# Altium schematic symbol library kmilo17pet-LT_PMIC_LT.SchLib: 2252 symbols (part 93 of 124)
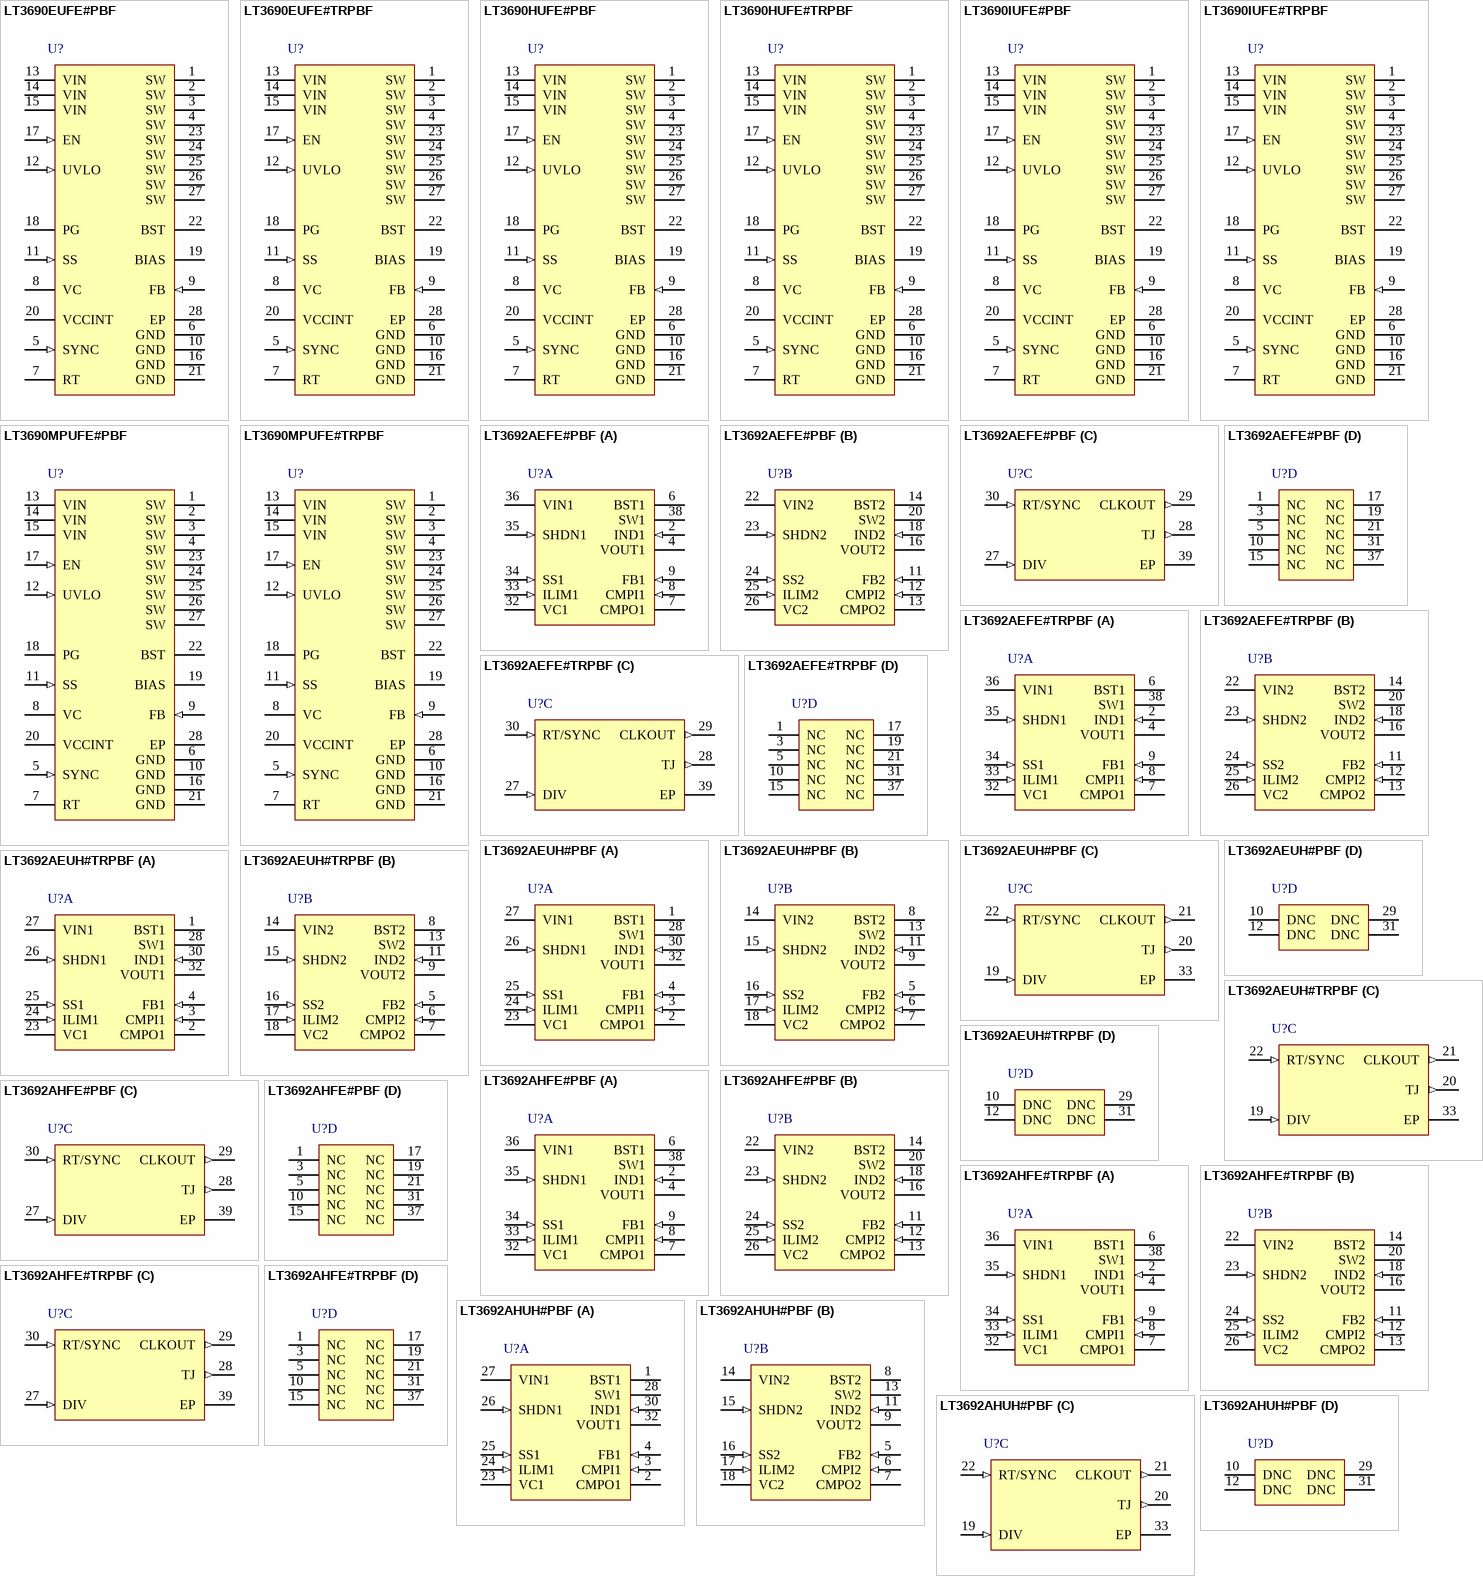
[diagram p163: symbols LT3690EUFE#PBF to LT3692AHUH#PBF]

## LT3690IUFE#PBF
designator U?
4 A, 1.5 MHz Synchronous Step-Down Switching Regulator with 70 uA Quiescent Current, 26-pin QFN (UFEMA-26), -40 to 125 degC, Pb-Free; Manufacturer: Linear Technology; PartNumber: LT3690IUFE#PBF; Number of Outputs: 1; PackageReference: UFEMA-26; PackageDescription: 26-Pin Plastic QFN, Body 6 x 4 mm, Pitch 0.5 mm; Supplier 1: Digi-Key; Supplier Part Number 1: LT3690IUFE#PBF-ND; RoHS: TRUE
footprint LT-UFEMA-26_V (QFN, 26-Leads, Body 6x4mm, Pitch 0.5mm)
pins: 1 SW (power) "The SW pin is the emitter output of the internal highside NPN power switch (HS) and the drain output of the internal lowside power N-channel switch (LS). Connect this pin to the inductor and boost capacitor. This pin is (See Datasheet)", 2 SW (power) "The SW pin is the emitter output of the internal highside NPN power switch (HS) and the drain output of the internal lowside power N-channel switch (LS). Connect this pin to the inductor and boost capacitor. This pin is (See Datasheet)", 3 SW (power) "The SW pin is the emitter output of the internal highside NPN power switch (HS) and the drain output of the internal lowside power N-channel switch (LS). Connect this pin to the inductor and boost capacitor. This pin is (See Datasheet)", 4 SW (power) "The SW pin is the emitter output of the internal highside NPN power switch (HS) and the drain output of the internal lowside power N-channel switch (LS). Connect this pin to the inductor and boost capacitor. This pin is (See Datasheet)", 5 SYNC (in) "The SYNC pin is used to synchronize the internal oscillator to an external signal. It is directly logic compatible and can be driven with any signal between 20% and 80% duty cycle. The synchronizing range is from 170kHz to 1.(See Datasheet)", 6 GND (power) "Ground.", 7 RT "Oscillator Resistor Input. Connecting a resistor to ground (Pin 10) from this pin sets the switching frequency.", 8 VC "The VC pin is the output of the internal error amplifier. The voltage on this pin controls the peak switch current. Tie an RC network from this pin to ground to compensate the control loop.", 9 FB (in) "The LT3690 regulates the FB pin to 0.8V. Connect the feedback resistor divider tap to this pin. The adjacent ground pin (Pin 10) is recommended for the resistor divider.", 10 GND (power) "Ground.", 11 SS (in) "The SS pin is used to provide a soft-start or tracking function. The internal 2uA pull-up current ISS in combination with an external capacitor tied to this pin creates a voltage ramp. The output voltage tracks to this (See Datasheet)", 12 UVLO (in) "Tie a resistor divider between VIN, UVLO, and GND to program an undervoltage lockout threshold. The UVLO pin has an accurate 1.25V threshold. Above the threshold, the part operates normally. Below the threshold, the part (See Datasheet)", 13 VIN (power) "The VIN pin supplies current to the LT3690’s internal regulator and to the internal power switch. This pin must be locally bypassed.", 14 VIN (power) "The VIN pin supplies current to the LT3690’s internal regulator and to the internal power switch. This pin must be locally bypassed.", 15 VIN (power) "The VIN pin supplies current to the LT3690’s internal regulator and to the internal power switch. This pin must be locally bypassed.", 16 GND (power) "Ground.", 17 EN (in) "The EN input is used to put the LT3690 in shutdown mode. Pull to GND to shut down the LT3690. Tie to 1.5V or more for normal operation.", 18 PG (oc) "The PG pin is the open collector output of an internal comparator. PG remains low until the FB pin is within 10% of the final regulation voltage. The PG output is valid when VIN is above 3.9V and EN is high.", 19 BIAS (power) "This pin connects to the anode of the internal boost Schottky diode. BIAS also supplies the current to the LT3690’s internal regulator. Tie this pin to the lowest available voltage source above 3V (typically VOUT). Thi(See Datasheet)", 20 VCCINT (power) "VCCINT is an output of the internally generated supply voltage for the synchronous power DMOS transistor driver. An external capacitor CVCC must be connected between this pin and ground (Pin 21) to buffer the internal supply (See Datasheet)", 21 GND (power) "Ground.", 22 BST "This pin is used to provide, with the external boost capacitor, a drive voltage higher than the input voltage VIN to the internal bipolar NPN power switch.", 23 SW (power) "The SW pin is the emitter output of the internal highside NPN power switch (HS) and the drain output of the internal lowside power N-channel switch (LS). Connect this pin to the inductor and boost capacitor. This pin is (See Datasheet)", 24 SW (power) "The SW pin is the emitter output of the internal highside NPN power switch (HS) and the drain output of the internal lowside power N-channel switch (LS). Connect this pin to the inductor and boost capacitor. This pin is (See Datasheet)", 25 SW (power) "The SW pin is the emitter output of the internal highside NPN power switch (HS) and the drain output of the internal lowside power N-channel switch (LS). Connect this pin to the inductor and boost capacitor. This pin is (See Datasheet)", 26 SW (power) "The SW pin is the emitter output of the internal highside NPN power switch (HS) and the drain output of the internal lowside power N-channel switch (LS). Connect this pin to the inductor and boost capacitor. This pin is (See Datasheet)", 27 SW (power) "The exposed pad is connected internally with SW pins 1-4, 23-26 and should be soldered to a large copper area to reduce thermal resistance.", 28 EP (power) "Ground. The exposed pad is connected internally to GND Pins 6, 10, 16 and 21, and should be soldered to a large copper area to reduce thermal resistance."

## LT3690IUFE#TRPBF
designator U?
4 A, 1.5 MHz Synchronous Step-Down Switching Regulator with 70 uA Quiescent Current, 26-pin QFN (UFEMA-26), -40 to 125 degC, Pb-Free, Tape and Reel; Manufacturer: Linear Technology; PartNumber: LT3690IUFE#TRPBF; Number of Outputs: 1; PackageReference: UFEMA-26; PackageDescription: 26-Pin Plastic QFN, Body 6 x 4 mm, Pitch 0.5 mm; Supplier 1: Digi-Key; Supplier Part Number 1: LT3690IUFE#TRPBF-ND; RoHS: TRUE
footprint LT-UFEMA-26_V (QFN, 26-Leads, Body 6x4mm, Pitch 0.5mm)
pins: 1 SW (power) "The SW pin is the emitter output of the internal highside NPN power switch (HS) and the drain output of the internal lowside power N-channel switch (LS). Connect this pin to the inductor and boost capacitor. This pin is (See Datasheet)", 2 SW (power) "The SW pin is the emitter output of the internal highside NPN power switch (HS) and the drain output of the internal lowside power N-channel switch (LS). Connect this pin to the inductor and boost capacitor. This pin is (See Datasheet)", 3 SW (power) "The SW pin is the emitter output of the internal highside NPN power switch (HS) and the drain output of the internal lowside power N-channel switch (LS). Connect this pin to the inductor and boost capacitor. This pin is (See Datasheet)", 4 SW (power) "The SW pin is the emitter output of the internal highside NPN power switch (HS) and the drain output of the internal lowside power N-channel switch (LS). Connect this pin to the inductor and boost capacitor. This pin is (See Datasheet)", 5 SYNC (in) "The SYNC pin is used to synchronize the internal oscillator to an external signal. It is directly logic compatible and can be driven with any signal between 20% and 80% duty cycle. The synchronizing range is from 170kHz to 1.(See Datasheet)", 6 GND (power) "Ground.", 7 RT "Oscillator Resistor Input. Connecting a resistor to ground (Pin 10) from this pin sets the switching frequency.", 8 VC "The VC pin is the output of the internal error amplifier. The voltage on this pin controls the peak switch current. Tie an RC network from this pin to ground to compensate the control loop.", 9 FB (in) "The LT3690 regulates the FB pin to 0.8V. Connect the feedback resistor divider tap to this pin. The adjacent ground pin (Pin 10) is recommended for the resistor divider.", 10 GND (power) "Ground.", 11 SS (in) "The SS pin is used to provide a soft-start or tracking function. The internal 2uA pull-up current ISS in combination with an external capacitor tied to this pin creates a voltage ramp. The output voltage tracks to this (See Datasheet)", 12 UVLO (in) "Tie a resistor divider between VIN, UVLO, and GND to program an undervoltage lockout threshold. The UVLO pin has an accurate 1.25V threshold. Above the threshold, the part operates normally. Below the threshold, the part (See Datasheet)", 13 VIN (power) "The VIN pin supplies current to the LT3690’s internal regulator and to the internal power switch. This pin must be locally bypassed.", 14 VIN (power) "The VIN pin supplies current to the LT3690’s internal regulator and to the internal power switch. This pin must be locally bypassed.", 15 VIN (power) "The VIN pin supplies current to the LT3690’s internal regulator and to the internal power switch. This pin must be locally bypassed.", 16 GND (power) "Ground.", 17 EN (in) "The EN input is used to put the LT3690 in shutdown mode. Pull to GND to shut down the LT3690. Tie to 1.5V or more for normal operation.", 18 PG (oc) "The PG pin is the open collector output of an internal comparator. PG remains low until the FB pin is within 10% of the final regulation voltage. The PG output is valid when VIN is above 3.9V and EN is high.", 19 BIAS (power) "This pin connects to the anode of the internal boost Schottky diode. BIAS also supplies the current to the LT3690’s internal regulator. Tie this pin to the lowest available voltage source above 3V (typically VOUT). Thi(See Datasheet)", 20 VCCINT (power) "VCCINT is an output of the internally generated supply voltage for the synchronous power DMOS transistor driver. An external capacitor CVCC must be connected between this pin and ground (Pin 21) to buffer the internal supply (See Datasheet)", 21 GND (power) "Ground.", 22 BST "This pin is used to provide, with the external boost capacitor, a drive voltage higher than the input voltage VIN to the internal bipolar NPN power switch.", 23 SW (power) "The SW pin is the emitter output of the internal highside NPN power switch (HS) and the drain output of the internal lowside power N-channel switch (LS). Connect this pin to the inductor and boost capacitor. This pin is (See Datasheet)", 24 SW (power) "The SW pin is the emitter output of the internal highside NPN power switch (HS) and the drain output of the internal lowside power N-channel switch (LS). Connect this pin to the inductor and boost capacitor. This pin is (See Datasheet)", 25 SW (power) "The SW pin is the emitter output of the internal highside NPN power switch (HS) and the drain output of the internal lowside power N-channel switch (LS). Connect this pin to the inductor and boost capacitor. This pin is (See Datasheet)", 26 SW (power) "The SW pin is the emitter output of the internal highside NPN power switch (HS) and the drain output of the internal lowside power N-channel switch (LS). Connect this pin to the inductor and boost capacitor. This pin is (See Datasheet)", 27 SW (power) "The exposed pad is connected internally with SW pins 1-4, 23-26 and should be soldered to a large copper area to reduce thermal resistance.", 28 EP (power) "Ground. The exposed pad is connected internally to GND Pins 6, 10, 16 and 21, and should be soldered to a large copper area to reduce thermal resistance."

## LT3690MPUFE#PBF
designator U?
4 A, 1.5 MHz Synchronous Step-Down Switching Regulator with 70 uA Quiescent Current, 26-pin QFN (UFEMA-26), -55 to 150 degC, Pb-Free; Manufacturer: Linear Technology; PartNumber: LT3690MPUFE#PBF; Number of Outputs: 1; PackageReference: UFEMA-26; PackageDescription: 26-Pin Plastic QFN, Body 6 x 4 mm, Pitch 0.5 mm; Supplier 1: Digi-Key; Supplier Part Number 1: LT3690MPUFE#PBF-ND; RoHS: TRUE
footprint LT-UFEMA-26_V (QFN, 26-Leads, Body 6x4mm, Pitch 0.5mm)
pins: 1 SW (power) "The SW pin is the emitter output of the internal highside NPN power switch (HS) and the drain output of the internal lowside power N-channel switch (LS). Connect this pin to the inductor and boost capacitor. This pin is (See Datasheet)", 2 SW (power) "The SW pin is the emitter output of the internal highside NPN power switch (HS) and the drain output of the internal lowside power N-channel switch (LS). Connect this pin to the inductor and boost capacitor. This pin is (See Datasheet)", 3 SW (power) "The SW pin is the emitter output of the internal highside NPN power switch (HS) and the drain output of the internal lowside power N-channel switch (LS). Connect this pin to the inductor and boost capacitor. This pin is (See Datasheet)", 4 SW (power) "The SW pin is the emitter output of the internal highside NPN power switch (HS) and the drain output of the internal lowside power N-channel switch (LS). Connect this pin to the inductor and boost capacitor. This pin is (See Datasheet)", 5 SYNC (in) "The SYNC pin is used to synchronize the internal oscillator to an external signal. It is directly logic compatible and can be driven with any signal between 20% and 80% duty cycle. The synchronizing range is from 170kHz to 1.(See Datasheet)", 6 GND (power) "Ground.", 7 RT "Oscillator Resistor Input. Connecting a resistor to ground (Pin 10) from this pin sets the switching frequency.", 8 VC "The VC pin is the output of the internal error amplifier. The voltage on this pin controls the peak switch current. Tie an RC network from this pin to ground to compensate the control loop.", 9 FB (in) "The LT3690 regulates the FB pin to 0.8V. Connect the feedback resistor divider tap to this pin. The adjacent ground pin (Pin 10) is recommended for the resistor divider.", 10 GND (power) "Ground.", 11 SS (in) "The SS pin is used to provide a soft-start or tracking function. The internal 2uA pull-up current ISS in combination with an external capacitor tied to this pin creates a voltage ramp. The output voltage tracks to this (See Datasheet)", 12 UVLO (in) "Tie a resistor divider between VIN, UVLO, and GND to program an undervoltage lockout threshold. The UVLO pin has an accurate 1.25V threshold. Above the threshold, the part operates normally. Below the threshold, the part (See Datasheet)", 13 VIN (power) "The VIN pin supplies current to the LT3690’s internal regulator and to the internal power switch. This pin must be locally bypassed.", 14 VIN (power) "The VIN pin supplies current to the LT3690’s internal regulator and to the internal power switch. This pin must be locally bypassed.", 15 VIN (power) "The VIN pin supplies current to the LT3690’s internal regulator and to the internal power switch. This pin must be locally bypassed.", 16 GND (power) "Ground.", 17 EN (in) "The EN input is used to put the LT3690 in shutdown mode. Pull to GND to shut down the LT3690. Tie to 1.5V or more for normal operation.", 18 PG (oc) "The PG pin is the open collector output of an internal comparator. PG remains low until the FB pin is within 10% of the final regulation voltage. The PG output is valid when VIN is above 3.9V and EN is high.", 19 BIAS (power) "This pin connects to the anode of the internal boost Schottky diode. BIAS also supplies the current to the LT3690’s internal regulator. Tie this pin to the lowest available voltage source above 3V (typically VOUT). Thi(See Datasheet)", 20 VCCINT (power) "VCCINT is an output of the internally generated supply voltage for the synchronous power DMOS transistor driver. An external capacitor CVCC must be connected between this pin and ground (Pin 21) to buffer the internal supply (See Datasheet)", 21 GND (power) "Ground.", 22 BST "This pin is used to provide, with the external boost capacitor, a drive voltage higher than the input voltage VIN to the internal bipolar NPN power switch.", 23 SW (power) "The SW pin is the emitter output of the internal highside NPN power switch (HS) and the drain output of the internal lowside power N-channel switch (LS). Connect this pin to the inductor and boost capacitor. This pin is (See Datasheet)", 24 SW (power) "The SW pin is the emitter output of the internal highside NPN power switch (HS) and the drain output of the internal lowside power N-channel switch (LS). Connect this pin to the inductor and boost capacitor. This pin is (See Datasheet)", 25 SW (power) "The SW pin is the emitter output of the internal highside NPN power switch (HS) and the drain output of the internal lowside power N-channel switch (LS). Connect this pin to the inductor and boost capacitor. This pin is (See Datasheet)", 26 SW (power) "The SW pin is the emitter output of the internal highside NPN power switch (HS) and the drain output of the internal lowside power N-channel switch (LS). Connect this pin to the inductor and boost capacitor. This pin is (See Datasheet)", 27 SW (power) "The exposed pad is connected internally with SW pins 1-4, 23-26 and should be soldered to a large copper area to reduce thermal resistance.", 28 EP (power) "Ground. The exposed pad is connected internally to GND Pins 6, 10, 16 and 21, and should be soldered to a large copper area to reduce thermal resistance."

## LT3690MPUFE#TRPBF
designator U?
4 A, 1.5 MHz Synchronous Step-Down Switching Regulator with 70 uA Quiescent Current, 26-pin QFN (UFEMA-26), -55 to 150 degC, Pb-Free, Tape and Reel; Manufacturer: Linear Technology; PartNumber: LT3690MPUFE#TRPBF; Number of Outputs: 1; PackageReference: UFEMA-26; PackageDescription: 26-Pin Plastic QFN, Body 6 x 4 mm, Pitch 0.5 mm; Supplier 1: Digi-Key; Supplier Part Number 1: LT3690MPUFE#TRPBF-ND; RoHS: TRUE
footprint LT-UFEMA-26_V (QFN, 26-Leads, Body 6x4mm, Pitch 0.5mm)
pins: 1 SW (power) "The SW pin is the emitter output of the internal highside NPN power switch (HS) and the drain output of the internal lowside power N-channel switch (LS). Connect this pin to the inductor and boost capacitor. This pin is (See Datasheet)", 2 SW (power) "The SW pin is the emitter output of the internal highside NPN power switch (HS) and the drain output of the internal lowside power N-channel switch (LS). Connect this pin to the inductor and boost capacitor. This pin is (See Datasheet)", 3 SW (power) "The SW pin is the emitter output of the internal highside NPN power switch (HS) and the drain output of the internal lowside power N-channel switch (LS). Connect this pin to the inductor and boost capacitor. This pin is (See Datasheet)", 4 SW (power) "The SW pin is the emitter output of the internal highside NPN power switch (HS) and the drain output of the internal lowside power N-channel switch (LS). Connect this pin to the inductor and boost capacitor. This pin is (See Datasheet)", 5 SYNC (in) "The SYNC pin is used to synchronize the internal oscillator to an external signal. It is directly logic compatible and can be driven with any signal between 20% and 80% duty cycle. The synchronizing range is from 170kHz to 1.(See Datasheet)", 6 GND (power) "Ground.", 7 RT "Oscillator Resistor Input. Connecting a resistor to ground (Pin 10) from this pin sets the switching frequency.", 8 VC "The VC pin is the output of the internal error amplifier. The voltage on this pin controls the peak switch current. Tie an RC network from this pin to ground to compensate the control loop.", 9 FB (in) "The LT3690 regulates the FB pin to 0.8V. Connect the feedback resistor divider tap to this pin. The adjacent ground pin (Pin 10) is recommended for the resistor divider.", 10 GND (power) "Ground.", 11 SS (in) "The SS pin is used to provide a soft-start or tracking function. The internal 2uA pull-up current ISS in combination with an external capacitor tied to this pin creates a voltage ramp. The output voltage tracks to this (See Datasheet)", 12 UVLO (in) "Tie a resistor divider between VIN, UVLO, and GND to program an undervoltage lockout threshold. The UVLO pin has an accurate 1.25V threshold. Above the threshold, the part operates normally. Below the threshold, the part (See Datasheet)", 13 VIN (power) "The VIN pin supplies current to the LT3690’s internal regulator and to the internal power switch. This pin must be locally bypassed.", 14 VIN (power) "The VIN pin supplies current to the LT3690’s internal regulator and to the internal power switch. This pin must be locally bypassed.", 15 VIN (power) "The VIN pin supplies current to the LT3690’s internal regulator and to the internal power switch. This pin must be locally bypassed.", 16 GND (power) "Ground.", 17 EN (in) "The EN input is used to put the LT3690 in shutdown mode. Pull to GND to shut down the LT3690. Tie to 1.5V or more for normal operation.", 18 PG (oc) "The PG pin is the open collector output of an internal comparator. PG remains low until the FB pin is within 10% of the final regulation voltage. The PG output is valid when VIN is above 3.9V and EN is high.", 19 BIAS (power) "This pin connects to the anode of the internal boost Schottky diode. BIAS also supplies the current to the LT3690’s internal regulator. Tie this pin to the lowest available voltage source above 3V (typically VOUT). Thi(See Datasheet)", 20 VCCINT (power) "VCCINT is an output of the internally generated supply voltage for the synchronous power DMOS transistor driver. An external capacitor CVCC must be connected between this pin and ground (Pin 21) to buffer the internal supply (See Datasheet)", 21 GND (power) "Ground.", 22 BST "This pin is used to provide, with the external boost capacitor, a drive voltage higher than the input voltage VIN to the internal bipolar NPN power switch.", 23 SW (power) "The SW pin is the emitter output of the internal highside NPN power switch (HS) and the drain output of the internal lowside power N-channel switch (LS). Connect this pin to the inductor and boost capacitor. This pin is (See Datasheet)", 24 SW (power) "The SW pin is the emitter output of the internal highside NPN power switch (HS) and the drain output of the internal lowside power N-channel switch (LS). Connect this pin to the inductor and boost capacitor. This pin is (See Datasheet)", 25 SW (power) "The SW pin is the emitter output of the internal highside NPN power switch (HS) and the drain output of the internal lowside power N-channel switch (LS). Connect this pin to the inductor and boost capacitor. This pin is (See Datasheet)", 26 SW (power) "The SW pin is the emitter output of the internal highside NPN power switch (HS) and the drain output of the internal lowside power N-channel switch (LS). Connect this pin to the inductor and boost capacitor. This pin is (See Datasheet)", 27 SW (power) "The exposed pad is connected internally with SW pins 1-4, 23-26 and should be soldered to a large copper area to reduce thermal resistance.", 28 EP (power) "Ground. The exposed pad is connected internally to GND Pins 6, 10, 16 and 21, and should be soldered to a large copper area to reduce thermal resistance."

## LT3692AEFE#PBF
designator U?
Monolithic Dual Tracking 3.5 A Step-Down Switching Regulator, Improved Minimum On-Time, 38-pin SOP (FE-38-EPV-AA), -40 to 125 degC, Pb-Free; Manufacturer: Linear Technology; PartNumber: LT3692AEFE#PBF; Number of Outputs: 2; PackageReference: FE-38; PackageDescription: 38-Pin Plastic TSSOP, Body 9.7 x 4.4 mm, Pitch 0.5 mm; Supplier 1: Digi-Key; Supplier Part Number 1: LT3692AEFE#PBF-ND; RoHS: TRUE
footprint LT-FE-38-EPV-AA_N (SOP, 38-Leads, Body 9.8x4.5mm, Pitch 0.5mm, Thermal Pad 4.75x2.74mm, IPC Medium Density)
footprint LT-FE-38-EPV-AA_L (SOP, 38-Leads, Body 9.8x4.5mm, Pitch 0.5mm, Thermal Pad 4.75x2.74mm, IPC High Density)
footprint LT-FE-38-EPV-AA_M (SOP, 38-Leads, Body 9.8x4.5mm, Pitch 0.5mm, Thermal Pad 4.75x2.74mm, IPC Low Density)
part A pins: 2 IND1 (in) "The IND pin is the input to the internal sense resistor that measures current flowing in the inductor. When the current in the resistor exceeds the current dictated by the VC pin, the SW latch is held in reset, disabling the (See Datasheet)", 4 VOUT1 (power) "The VOUT pin is the output to the internal sense resistor that measures current flowing in the inductor. When the current in the resistor exceeds the current dictated by the VC pin, the SW latch is held in reset disabling (See Datasheet)", 6 BST1 "The BST pin provides a higher than VIN base drive to the power NPN to ensure a low switch drop. If the voltage between the BST pin and the VIN pin is less than the voltage required to fully turn on the power NPN, the power (See Datasheet)", 7 CMPO1 (oc), 8 CMPI1 (in), 9 FB1 (in) "The FB pin is the negative input to the error amplifier. The output switches to regulate this pin to 806mV with respect to the exposed ground pad. Bias current flows out of the FB pin.", 32 VC1 "The VC pin is the output of the error amplifier and the input to the peak switch current comparator. It is normally used for frequency compensation, but can also be used as a current clamp or control loop override. If the (See Datasheet)", 33 ILIM1 (in), 34 SS1 (in) "Current flowing out the SS pin into an external capacitor defines the rise time of the output voltage. When the SS pin is lower than the 0.806V reference, the feedback is regulated to the SS voltage. When the SS pin exceeds (See Datasheet)", 35 SHDN1 (in), 36 VIN1 (power), 38 SW1 (power) "The SW pin is the emitter of the internal power NPN. At switch off, the inductor will drive this pin below ground with a high dV/dt. An external Schottky catch diode to ground, close to the SW pin and respective VIN (See Datasheet)"
part B pins: 11 FB2 (in) "The FB pin is the negative input to the error amplifier. The output switches to regulate this pin to 806mV with respect to the exposed ground pad. Bias current flows out of the FB pin.", 12 CMPI2 (in), 13 CMPO2 (oc), 14 BST2 "The BST pin provides a higher than VIN base drive to the power NPN to ensure a low switch drop. If the voltage between the BST pin and the VIN pin is less than the voltage required to fully turn on the power NPN, the power (See Datasheet)", 16 VOUT2 (power) "The VOUT pin is the output to the internal sense resistor that measures current flowing in the inductor. When the current in the resistor exceeds the current dictated by the VC pin, the SW latch is held in reset disabling (See Datasheet)", 18 IND2 (in) "The IND pin is the input to the internal sense resistor that measures current flowing in the inductor. When the current in the resistor exceeds the current dictated by the VC pin, the SW latch is held in reset, disabling the (See Datasheet)", 20 SW2 (power) "The SW pin is the emitter of the internal power NPN. At switch off, the inductor will drive this pin below ground with a high dV/dt. An external Schottky catch diode to ground, close to the SW pin and respective VIN (See Datasheet)", 22 VIN2 (power), 23 SHDN2 (in), 24 SS2 (in) "Current flowing out the SS pin into an external capacitor defines the rise time of the output voltage. When the SS pin is lower than the 0.806V reference, the feedback is regulated to the SS voltage. When the SS pin exceeds (See Datasheet)", 25 ILIM2 (in), 26 VC2 "The VC pin is the output of the error amplifier and the input to the peak switch current comparator. It is normally used for frequency compensation, but can also be used as a current clamp or control loop override. If the (See Datasheet)"
part C pins: 27 DIV (in) "The voltage present at the DIV pin determines the ratio of channel 1 frequency to the master clock frequency set by the RT/SYNC pin. The DIV pin is driven by an internal current source with a typical value of 12uA which (See Datasheet)", 28 TJ (out) "The TJ pin outputs a voltage proportional to junction temperature. The pin is 250mV for 25degreesC and has a slope of 10mV/degreesC. See the Applications Information section for more information.", 29 CLKOUT (out) "The CLKOUT pin generates a square wave of 0V to 2.5V which is synchronized to the internal oscillator. If the switching frequency is set by an external resistor the resultant clock duty cycle will be 50%. If the RT/SYNC pin (See Datasheet)", 30 RT/SYNC (in), 39 EP (power) "The exposed pad pin is the only ground connection for the device. The exposed pad should be soldered to a large copper area to reduce thermal resistance. The GND pin is common to both channels and also serves as small-signal (See Datasheet)"
part D pins: 1 NC, 3 NC, 5 NC, 10 NC, 15 NC, 17 NC, 19 NC, 21 NC, 31 NC, 37 NC

## LT3692AEFE#TRPBF
designator U?
Monolithic Dual Tracking 3.5 A Step-Down Switching Regulator, Improved Minimum On-Time, 38-pin SOP (FE-38-EPV-AA), -40 to 125 degC, Pb-Free, Tape and Reel; Manufacturer: Linear Technology; PartNumber: LT3692AEFE#TRPBF; Number of Outputs: 2; PackageReference: FE-38; PackageDescription: 38-Pin Plastic TSSOP, Body 9.7 x 4.4 mm, Pitch 0.5 mm; Supplier 1: Digi-Key; Supplier Part Number 1: LT3692AEFE#TRPBF-ND; RoHS: TRUE
footprint LT-FE-38-EPV-AA_N (SOP, 38-Leads, Body 9.8x4.5mm, Pitch 0.5mm, Thermal Pad 4.75x2.74mm, IPC Medium Density)
footprint LT-FE-38-EPV-AA_L (SOP, 38-Leads, Body 9.8x4.5mm, Pitch 0.5mm, Thermal Pad 4.75x2.74mm, IPC High Density)
footprint LT-FE-38-EPV-AA_M (SOP, 38-Leads, Body 9.8x4.5mm, Pitch 0.5mm, Thermal Pad 4.75x2.74mm, IPC Low Density)
part A pins: 2 IND1 (in) "The IND pin is the input to the internal sense resistor that measures current flowing in the inductor. When the current in the resistor exceeds the current dictated by the VC pin, the SW latch is held in reset, disabling the (See Datasheet)", 4 VOUT1 (power) "The VOUT pin is the output to the internal sense resistor that measures current flowing in the inductor. When the current in the resistor exceeds the current dictated by the VC pin, the SW latch is held in reset disabling (See Datasheet)", 6 BST1 "The BST pin provides a higher than VIN base drive to the power NPN to ensure a low switch drop. If the voltage between the BST pin and the VIN pin is less than the voltage required to fully turn on the power NPN, the power (See Datasheet)", 7 CMPO1 (oc), 8 CMPI1 (in), 9 FB1 (in) "The FB pin is the negative input to the error amplifier. The output switches to regulate this pin to 806mV with respect to the exposed ground pad. Bias current flows out of the FB pin.", 32 VC1 "The VC pin is the output of the error amplifier and the input to the peak switch current comparator. It is normally used for frequency compensation, but can also be used as a current clamp or control loop override. If the (See Datasheet)", 33 ILIM1 (in), 34 SS1 (in) "Current flowing out the SS pin into an external capacitor defines the rise time of the output voltage. When the SS pin is lower than the 0.806V reference, the feedback is regulated to the SS voltage. When the SS pin exceeds (See Datasheet)", 35 SHDN1 (in), 36 VIN1 (power), 38 SW1 (power) "The SW pin is the emitter of the internal power NPN. At switch off, the inductor will drive this pin below ground with a high dV/dt. An external Schottky catch diode to ground, close to the SW pin and respective VIN (See Datasheet)"
part B pins: 11 FB2 (in) "The FB pin is the negative input to the error amplifier. The output switches to regulate this pin to 806mV with respect to the exposed ground pad. Bias current flows out of the FB pin.", 12 CMPI2 (in), 13 CMPO2 (oc), 14 BST2 "The BST pin provides a higher than VIN base drive to the power NPN to ensure a low switch drop. If the voltage between the BST pin and the VIN pin is less than the voltage required to fully turn on the power NPN, the power (See Datasheet)", 16 VOUT2 (power) "The VOUT pin is the output to the internal sense resistor that measures current flowing in the inductor. When the current in the resistor exceeds the current dictated by the VC pin, the SW latch is held in reset disabling (See Datasheet)", 18 IND2 (in) "The IND pin is the input to the internal sense resistor that measures current flowing in the inductor. When the current in the resistor exceeds the current dictated by the VC pin, the SW latch is held in reset, disabling the (See Datasheet)", 20 SW2 (power) "The SW pin is the emitter of the internal power NPN. At switch off, the inductor will drive this pin below ground with a high dV/dt. An external Schottky catch diode to ground, close to the SW pin and respective VIN (See Datasheet)", 22 VIN2 (power), 23 SHDN2 (in), 24 SS2 (in) "Current flowing out the SS pin into an external capacitor defines the rise time of the output voltage. When the SS pin is lower than the 0.806V reference, the feedback is regulated to the SS voltage. When the SS pin exceeds (See Datasheet)", 25 ILIM2 (in), 26 VC2 "The VC pin is the output of the error amplifier and the input to the peak switch current comparator. It is normally used for frequency compensation, but can also be used as a current clamp or control loop override. If the (See Datasheet)"
part C pins: 27 DIV (in) "The voltage present at the DIV pin determines the ratio of channel 1 frequency to the master clock frequency set by the RT/SYNC pin. The DIV pin is driven by an internal current source with a typical value of 12uA which (See Datasheet)", 28 TJ (out) "The TJ pin outputs a voltage proportional to junction temperature. The pin is 250mV for 25degreesC and has a slope of 10mV/degreesC. See the Applications Information section for more information.", 29 CLKOUT (out) "The CLKOUT pin generates a square wave of 0V to 2.5V which is synchronized to the internal oscillator. If the switching frequency is set by an external resistor the resultant clock duty cycle will be 50%. If the RT/SYNC pin (See Datasheet)", 30 RT/SYNC (in), 39 EP (power) "The exposed pad pin is the only ground connection for the device. The exposed pad should be soldered to a large copper area to reduce thermal resistance. The GND pin is common to both channels and also serves as small-signal (See Datasheet)"
part D pins: 1 NC, 3 NC, 5 NC, 10 NC, 15 NC, 17 NC, 19 NC, 21 NC, 31 NC, 37 NC

## LT3692AEUH#PBF
designator U?
Monolithic Dual Tracking 3.5 A Step-Down Switching Regulator, Improved Minimum On-Time, 32-pin QFN (UH-32), -40 to 125 degC, Pb-Free; Manufacturer: Linear Technology; PartNumber: LT3692AEUH#PBF; Number of Outputs: 2; PackageReference: UH-32; PackageDescription: 32-Pin Plastic QFN, Body 5 x 5 mm, Pitch 0.5 mm; Supplier 1: Digi-Key; Supplier Part Number 1: LT3692AEUH#PBF-ND; RoHS: TRUE
footprint LT-UH-32_N (QFN, 32-Leads, Body 5.1x5.1mm, Pitch 0.5mm, Thermal Pad 3.45X3.45mm, IPC Medium Density)
footprint LT-UH-32_L (QFN, 32-Leads, Body 5.1x5.1mm, Pitch 0.5mm, Thermal Pad 3.45X3.45mm, IPC High Density)
footprint LT-UH-32_M (QFN, 32-Leads, Body 5.1x5.1mm, Pitch 0.5mm, Thermal Pad 3.45X3.45mm, IPC Low Density)
part A pins: 1 BST1 "The BST pin provides a higher than VIN base drive to the power NPN to ensure a low switch drop. If the voltage between the BST pin and the VIN pin is less than the voltage required to fully turn on the power NPN, the power (See Datasheet)", 2 CMPO1 (oc) "The CMPO pin is an open-collector output that sinks current when the CMPI pin falls below its threshold. For a typical input voltage above 2.8V, its output state remains true, although during shutdown, VIN1 undervoltage (See Datasheet)", 3 CMPI1 (in) "The CMPI pin is an input to a comparator with a threshold of 720mV and 60mV of hysteresis. Connecting the CMPI pin to the FB pin will generate a power good signal when the output is within 90% ofits regulated value.", 4 FB1 (in) "The FB pin is the negative input to the error amplifier. The output switches to regulate this pin to 806mV with respect to the exposed ground pad. Bias current flows out of the FB pin.", 23 VC1 "The VC pin is the output of the error amplifier and the input to the peak switch current comparator. It is normally used for frequency compensation, but can also be used as a current clamp or control loop override. If the (See Datasheet)", 24 ILIM1 (in) "The voltage present at the ILIM pin determines the peak inductor current for the channel. The ILIM pin is driven by an internal current source with a typical value of 12uA. A resistor from the ILIM pin to ground sets the (See Datasheet)", 25 SS1 (in) "Current flowing out the SS pin into an external capacitor defines the rise time of the output voltage. When the SS pin is lower than the 0.806V reference, the feedback is regulated to the SS voltage. When the SS pin exceeds (See Datasheet)", 26 SHDN1 (in) "The shutdown pin is used to control each channel’s operation. In addition to controlling channel 1, the SHDN1 pin also activates control circuitry for both channels and must be present for channel 2 to operate. When SHDN(See Datasheet)", 27 VIN1 (power) "The VIN1 pin powers the internal control circuitry for both channels and is monitored by overvoltage/undervoltage lockout comparators. The VIN1 pin is also connected to the collector of channel 1’s on-chip power NPN switc(See Datasheet)", 28 SW1 "The SW pin is the emitter of the internal power NPN. At switch off, the inductor will drive this pin below ground with a high dV/dt. An external Schottky catch diode to ground, close to the SW pin and respective VIN (See Datasheet)", 30 IND1 (in) "The IND pin is the input to the internal sense resistor that measures current flowing in the inductor. When the current in the resistor exceeds the current dictated by the VC pin, the SW latch is held in reset, disabling the (See Datasheet)", 32 VOUT1 (power) "The VOUT pin is the output to the internal sense resistor that measures current flowing in the inductor. When the current in the resistor exceeds the current dictated by the VC pin, the SW latch is held in reset disabling (See Datasheet)"
part B pins: 5 FB2 (in) "The FB pin is the negative input to the error amplifier. The output switches to regulate this pin to 806mV with respect to the exposed ground pad. Bias current flows out of the FB pin.", 6 CMPI2 (in) "The CMPI pin is an input to a comparator with a threshold of 720mV and 60mV of hysteresis. Connecting the CMPI pin to the FB pin will generate a power good signal when the output is within 90% ofits regulated value.", 7 CMPO2 (oc) "The CMPO pin is an open-collector output that sinks current when the CMPI pin falls below its threshold. For a typical input voltage above 2.8V, its output state remains true, although during shutdown, VIN1 undervoltage (See Datasheet)", 8 BST2 "The BST pin provides a higher than VIN base drive to the power NPN to ensure a low switch drop. If the voltage between the BST pin and the VIN pin is less than the voltage required to fully turn on the power NPN, the power (See Datasheet)", 9 VOUT2 (power) "The VOUT pin is the output to the internal sense resistor that measures current flowing in the inductor. When the current in the resistor exceeds the current dictated by the VC pin, the SW latch is held in reset disabling (See Datasheet)", 11 IND2 (in) "The IND pin is the input to the internal sense resistor that measures current flowing in the inductor. When the current in the resistor exceeds the current dictated by the VC pin, the SW latch is held in reset, disabling the (See Datasheet)", 13 SW2 "The SW pin is the emitter of the internal power NPN. At switch off, the inductor will drive this pin below ground with a high dV/dt. An external Schottky catch diode to ground, close to the SW pin and respective VIN (See Datasheet)", 14 VIN2 (power) "The VIN2 pin powers the output stage for channel 2 and is monitored by overvoltage/undervoltage lockout comparators. VIN1 voltage must be greater than typically 2.8V for VIN2 operation. The VIN2 pin is also the collector of (See Datasheet)", 15 SHDN2 (in) "The shutdown pin is used to control each channel’s operation. In addition to controlling channel 1, the SHDN1 pin also activates control circuitry for both channels and must be present for channel 2 to operate. When SHDN(See Datasheet)", 16 SS2 (in) "Current flowing out the SS pin into an external capacitor defines the rise time of the output voltage. When the SS pin is lower than the 0.806V reference, the feedback is regulated to the SS voltage. When the SS pin exceeds (See Datasheet)", 17 ILIM2 (in) "The voltage present at the ILIM pin determines the peak inductor current for the channel. The ILIM pin is driven by an internal current source with a typical value of 12uA. A resistor from the ILIM pin to ground sets the (See Datasheet)", 18 VC2 "The VC pin is the output of the error amplifier and the input to the peak switch current comparator. It is normally used for frequency compensation, but can also be used as a current clamp or control loop override. If the (See Datasheet)"
part C pins: 19 DIV (in) "The voltage present at the DIV pin determines the ratio of channel 1 frequency to the master clock frequency set by the RT/SYNC pin. The DIV pin is driven by an internal current source with a typical value of 12uA which (See Datasheet)", 20 TJ (out) "The TJ pin outputs a voltage proportional to junction temperature. The pin is 250mV for 25degreesC and has a slope of 10mV/degreesC. See the Applications Information section for more information.", 21 CLKOUT (out) "The CLKOUT pin generates a square wave of 0V to 2.5V which is synchronized to the internal oscillator. If the switching frequency is set by an external resistor the resultant clock duty cycle will be 50%. If the RT/SYNC pin (See Datasheet)", 22 RT/SYNC (in), 33 EP (power) "The exposed pad pin is the only ground connection for the device. The exposed pad should be soldered to a large copper area to reduce thermal resistance. The GND pin is common to both channels and also serves as small-signal (See Datasheet)"
part D pins: 10 DNC "Do Not Connect.", 12 DNC "Do Not Connect.", 29 DNC "Do Not Connect.", 31 DNC "Do Not Connect."

## LT3692AEUH#TRPBF
designator U?
Monolithic Dual Tracking 3.5 A Step-Down Switching Regulator, Improved Minimum On-Time, 32-pin QFN (UH-32), -40 to 125 degC, Pb-Free, Tape and Reel; Manufacturer: Linear Technology; PartNumber: LT3692AEUH#TRPBF; Number of Outputs: 2; PackageReference: UH-32; PackageDescription: 32-Pin Plastic QFN, Body 5 x 5 mm, Pitch 0.5 mm; Supplier 1: Digi-Key; Supplier Part Number 1: LT3692AEUH#TRPBF-ND; RoHS: TRUE
footprint LT-UH-32_N (QFN, 32-Leads, Body 5.1x5.1mm, Pitch 0.5mm, Thermal Pad 3.45X3.45mm, IPC Medium Density)
footprint LT-UH-32_L (QFN, 32-Leads, Body 5.1x5.1mm, Pitch 0.5mm, Thermal Pad 3.45X3.45mm, IPC High Density)
footprint LT-UH-32_M (QFN, 32-Leads, Body 5.1x5.1mm, Pitch 0.5mm, Thermal Pad 3.45X3.45mm, IPC Low Density)
part A pins: 1 BST1 "The BST pin provides a higher than VIN base drive to the power NPN to ensure a low switch drop. If the voltage between the BST pin and the VIN pin is less than the voltage required to fully turn on the power NPN, the power (See Datasheet)", 2 CMPO1 (oc) "The CMPO pin is an open-collector output that sinks current when the CMPI pin falls below its threshold. For a typical input voltage above 2.8V, its output state remains true, although during shutdown, VIN1 undervoltage (See Datasheet)", 3 CMPI1 (in) "The CMPI pin is an input to a comparator with a threshold of 720mV and 60mV of hysteresis. Connecting the CMPI pin to the FB pin will generate a power good signal when the output is within 90% ofits regulated value.", 4 FB1 (in) "The FB pin is the negative input to the error amplifier. The output switches to regulate this pin to 806mV with respect to the exposed ground pad. Bias current flows out of the FB pin.", 23 VC1 "The VC pin is the output of the error amplifier and the input to the peak switch current comparator. It is normally used for frequency compensation, but can also be used as a current clamp or control loop override. If the (See Datasheet)", 24 ILIM1 (in) "The voltage present at the ILIM pin determines the peak inductor current for the channel. The ILIM pin is driven by an internal current source with a typical value of 12uA. A resistor from the ILIM pin to ground sets the (See Datasheet)", 25 SS1 (in) "Current flowing out the SS pin into an external capacitor defines the rise time of the output voltage. When the SS pin is lower than the 0.806V reference, the feedback is regulated to the SS voltage. When the SS pin exceeds (See Datasheet)", 26 SHDN1 (in) "The shutdown pin is used to control each channel’s operation. In addition to controlling channel 1, the SHDN1 pin also activates control circuitry for both channels and must be present for channel 2 to operate. When SHDN(See Datasheet)", 27 VIN1 (power) "The VIN1 pin powers the internal control circuitry for both channels and is monitored by overvoltage/undervoltage lockout comparators. The VIN1 pin is also connected to the collector of channel 1’s on-chip power NPN switc(See Datasheet)", 28 SW1 "The SW pin is the emitter of the internal power NPN. At switch off, the inductor will drive this pin below ground with a high dV/dt. An external Schottky catch diode to ground, close to the SW pin and respective VIN (See Datasheet)", 30 IND1 (in) "The IND pin is the input to the internal sense resistor that measures current flowing in the inductor. When the current in the resistor exceeds the current dictated by the VC pin, the SW latch is held in reset, disabling the (See Datasheet)", 32 VOUT1 (power) "The VOUT pin is the output to the internal sense resistor that measures current flowing in the inductor. When the current in the resistor exceeds the current dictated by the VC pin, the SW latch is held in reset disabling (See Datasheet)"
part B pins: 5 FB2 (in) "The FB pin is the negative input to the error amplifier. The output switches to regulate this pin to 806mV with respect to the exposed ground pad. Bias current flows out of the FB pin.", 6 CMPI2 (in) "The CMPI pin is an input to a comparator with a threshold of 720mV and 60mV of hysteresis. Connecting the CMPI pin to the FB pin will generate a power good signal when the output is within 90% ofits regulated value.", 7 CMPO2 (oc) "The CMPO pin is an open-collector output that sinks current when the CMPI pin falls below its threshold. For a typical input voltage above 2.8V, its output state remains true, although during shutdown, VIN1 undervoltage (See Datasheet)", 8 BST2 "The BST pin provides a higher than VIN base drive to the power NPN to ensure a low switch drop. If the voltage between the BST pin and the VIN pin is less than the voltage required to fully turn on the power NPN, the power (See Datasheet)", 9 VOUT2 (power) "The VOUT pin is the output to the internal sense resistor that measures current flowing in the inductor. When the current in the resistor exceeds the current dictated by the VC pin, the SW latch is held in reset disabling (See Datasheet)", 11 IND2 (in) "The IND pin is the input to the internal sense resistor that measures current flowing in the inductor. When the current in the resistor exceeds the current dictated by the VC pin, the SW latch is held in reset, disabling the (See Datasheet)", 13 SW2 "The SW pin is the emitter of the internal power NPN. At switch off, the inductor will drive this pin below ground with a high dV/dt. An external Schottky catch diode to ground, close to the SW pin and respective VIN (See Datasheet)", 14 VIN2 (power) "The VIN2 pin powers the output stage for channel 2 and is monitored by overvoltage/undervoltage lockout comparators. VIN1 voltage must be greater than typically 2.8V for VIN2 operation. The VIN2 pin is also the collector of (See Datasheet)", 15 SHDN2 (in) "The shutdown pin is used to control each channel’s operation. In addition to controlling channel 1, the SHDN1 pin also activates control circuitry for both channels and must be present for channel 2 to operate. When SHDN(See Datasheet)", 16 SS2 (in) "Current flowing out the SS pin into an external capacitor defines the rise time of the output voltage. When the SS pin is lower than the 0.806V reference, the feedback is regulated to the SS voltage. When the SS pin exceeds (See Datasheet)", 17 ILIM2 (in) "The voltage present at the ILIM pin determines the peak inductor current for the channel. The ILIM pin is driven by an internal current source with a typical value of 12uA. A resistor from the ILIM pin to ground sets the (See Datasheet)", 18 VC2 "The VC pin is the output of the error amplifier and the input to the peak switch current comparator. It is normally used for frequency compensation, but can also be used as a current clamp or control loop override. If the (See Datasheet)"
part C pins: 19 DIV (in) "The voltage present at the DIV pin determines the ratio of channel 1 frequency to the master clock frequency set by the RT/SYNC pin. The DIV pin is driven by an internal current source with a typical value of 12uA which (See Datasheet)", 20 TJ (out) "The TJ pin outputs a voltage proportional to junction temperature. The pin is 250mV for 25degreesC and has a slope of 10mV/degreesC. See the Applications Information section for more information.", 21 CLKOUT (out) "The CLKOUT pin generates a square wave of 0V to 2.5V which is synchronized to the internal oscillator. If the switching frequency is set by an external resistor the resultant clock duty cycle will be 50%. If the RT/SYNC pin (See Datasheet)", 22 RT/SYNC (in), 33 EP (power) "The exposed pad pin is the only ground connection for the device. The exposed pad should be soldered to a large copper area to reduce thermal resistance. The GND pin is common to both channels and also serves as small-signal (See Datasheet)"
part D pins: 10 DNC "Do Not Connect.", 12 DNC "Do Not Connect.", 29 DNC "Do Not Connect.", 31 DNC "Do Not Connect."